# EAGLE library part MC100EP016 (library MC100EP016)
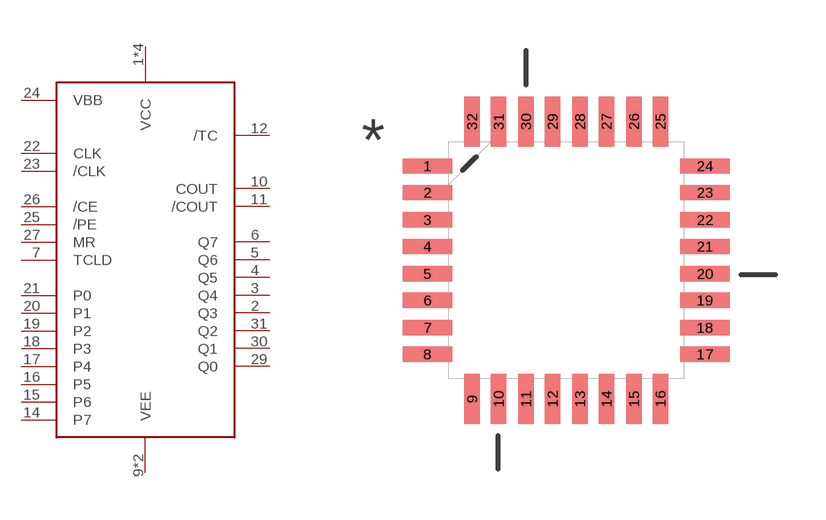
[diagram p0: symbol with the pads of QFP80P900X900X160-32N; footprint QFP80P900X900X160-32N]

Designator prefix -

## MC100EP016  [QFP80P900X900X160-32N]
1  VCC
2  Q3
3  Q4
4  Q5
5  Q6
6  Q7
7  TCLD
8  VCC
9  VEE
10  COUT
11  /COUT
12  /TC
13  VCC
14  P7
15  P6
16  P5
17  P4
18  P3
19  P2
20  P1
21  P0
22  CLK
23  /CLK
24  VBB
25  /PE
26  /CE
27  MR
28  VEE
29  Q0
30  Q1
31  Q2
32  VCC

## Footprint QFP80P900X900X160-32N (pad centres in mm)
smd 1.473 x 0.457: 1 -4.115,2.794; 2 -4.115,2.007; 3 -4.115,1.194; 4 -4.115,0.406; 5 -4.115,-0.406; 6 -4.115,-1.194; 7 -4.115,-2.007; 8 -4.115,-2.794; 17 4.115,-2.794; 18 4.115,-2.007; 19 4.115,-1.194; 20 4.115,-0.406; 21 4.115,0.406; 22 4.115,1.194; 23 4.115,2.007; 24 4.115,2.794
smd 0.457 x 1.473: 9 -2.794,-4.115; 10 -2.007,-4.115; 11 -1.194,-4.115; 12 -0.406,-4.115; 13 0.406,-4.115; 14 1.194,-4.115; 15 2.007,-4.115; 16 2.794,-4.115; 25 2.794,4.115; 26 2.007,4.115; 27 1.194,4.115; 28 0.406,4.115; 29 -0.406,4.115; 30 -1.194,4.115; 31 -2.007,4.115; 32 -2.794,4.115